# Altium footprint library BUG.PcbLib: 17 footprints (part 2 of 2)
Each footprint in its own frame and in the unit in brackets; x right, y up, seen from the top. Pads: shape width x height; smd on the part's side, far side on the other; paste and mask are expansions set on the pad; w line width, h text height; cw(c..) or ccw(c..) is an arc to the next point about the centre after c.
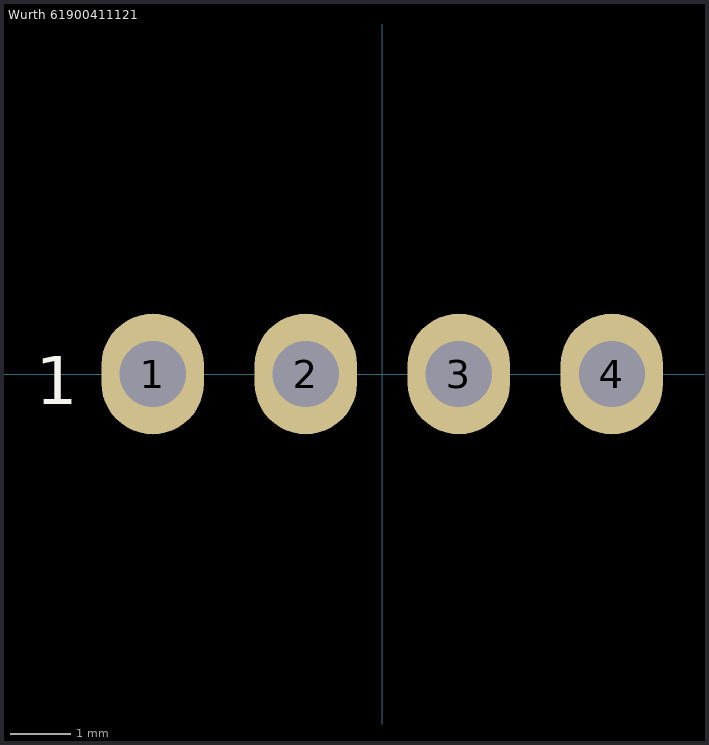
[diagram p1: the footprint, top view; thin cyan lines are the x and y axes]

## Wurth 61900411121 [mm] "[Last Edit: 03-06-19]"
height 11.5
pads (4):
  oval 1.7x2 hole 1.1: 1(-3.81,0) 2(-1.27,0) 3(1.27,0) 4(3.81,0)
Top Overlay:
  text "1" at -5.75,-0.5 h0.8
Bottom Overlay:
  text "1" at -5.25,-0.5 h0.8